# Altium schematic symbol library MX25.SchLib: 1 symbol
Pins are listed as number, name and electrical type; pins without a type are passive.

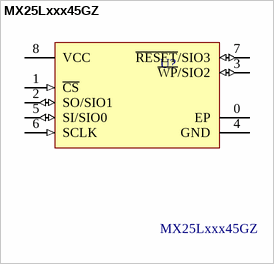
[diagram p0: symbol MX25Lxxx45GZ]

## MX25Lxxx45GZ
designator U?
IC FLSH 256MBIT SPI 120MHZ 8WSON; RoHS Compliant: Yes
footprint MX25Lxxx45GZ (SON127P800X80_HS-9N / SON, 8-Leads, Body 6.00x8.00mm, Pitch 1.27mm, Thermal Pad 4.60x4.70mm, IPC Medium Density)
pins: 0 EP (power), 1 ~{CS} (in), 2 SO/SIO1 (io), 3 ~{WP}/SIO2 (io), 4 GND (power), 5 SI/SIO0 (io), 6 SCLK (in), 7 ~{RESET}/SIO3 (io), 8 VCC (power)